# EAGLE library part XFMR-UMM (library matlock)
Edcor UMM transformer be sure to set attributes for documentation purposes UMM-13 pin function 1 common 2 45Ω 3 200Ω 4 600Ω 5 600Ω 6 200Ω 7 45Ω 8 common
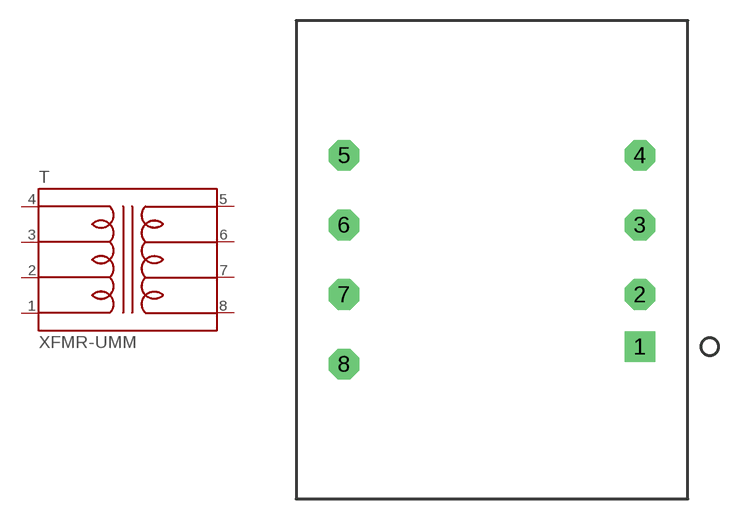
[diagram p6: symbol with the pads of UMM-X; footprint UMM-X]

Designator prefix T

## XFMR-UMM  [UMM-X]
1  1
2  2
3  3
4  4
5  5
6  6
7  7
8  8

## Footprint UMM-X (pad centres in mm)
Edcor UMM-X (e.g. UMM-13 for 45,200,600:45,200,600) transformer
drill 1.499 square: 1 10.795,-6.35
drill 1.499 octagon: 2 10.795,-2.54; 3 10.795,2.54; 4 10.795,7.62; 5 -10.795,7.62; 6 -10.795,2.54; 7 -10.795,-2.54; 8 -10.795,-7.62